# Altium footprint library ES_Pcb_x.PcbLib: 354 footprints (part 13 of 23)
Each footprint in its own frame and in the unit in brackets; x right, y up, seen from the top. Pads: shape width x height; smd on the part's side, far side on the other; paste and mask are expansions set on the pad; w line width, h text height; cw(c..) or ccw(c..) is an arc to the next point about the centre after c.
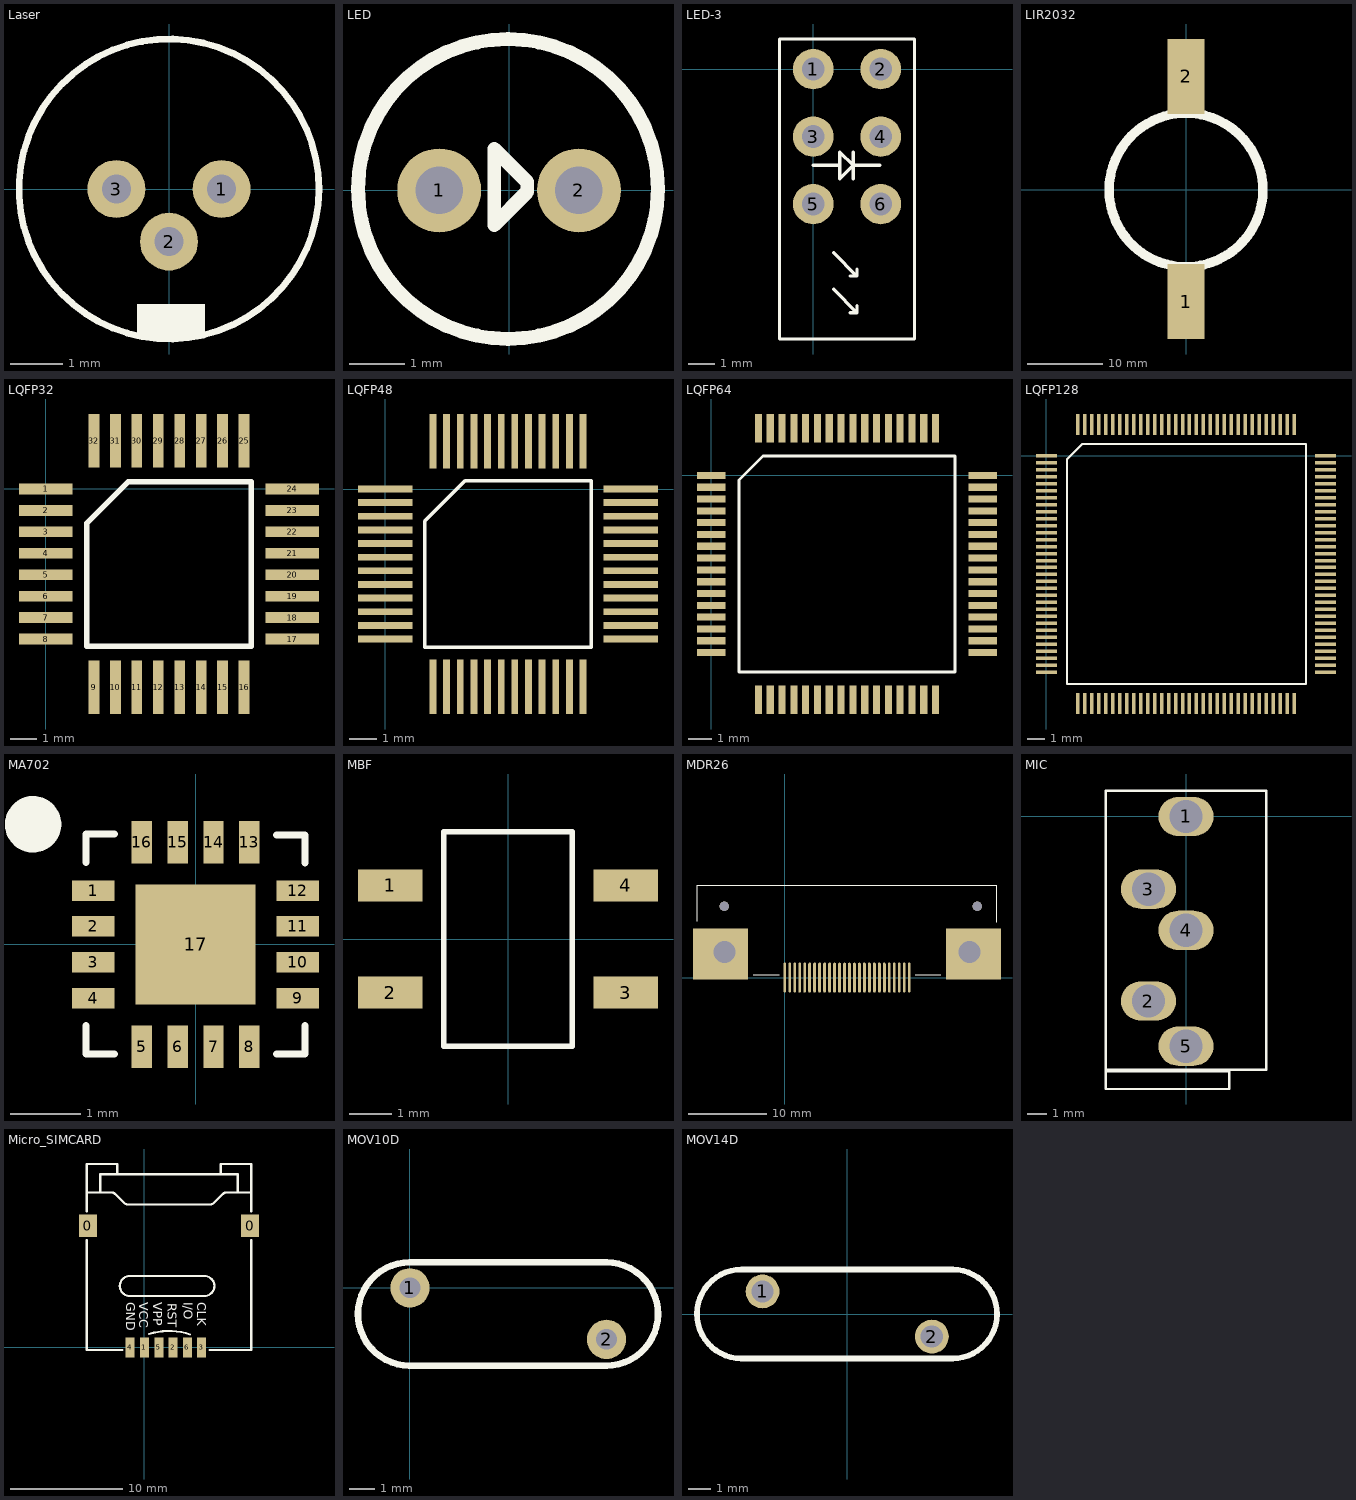
[diagram p12: the footprints below, top view; thin cyan lines are the x and y axes]

## Laser [mm]
pads (3):
  round 1.1 hole 0.55: 1(1,0) 2(0,-1) 3(-1,0)
Top Overlay:
  circle w0.127: c0,0 r2.85
  rectangle: -0.61,-2.819 0.686,-2.184

## LDW0735T-102 [mm]

## LED [mil]
pads (2):
  round 60 hole 34: 1(-50,0) 2(50,0)
Top Overlay:
  circle w10: c-0.79,0.98 r107.32
  lines w10: -10.63,-24.61 -10.63,29.53 12.99,5.91 12.99,-0.98 -10.63,-24.61

## LED-3 [mil]
pads (6):
  round 60 hole 34: 1(0,0) 2(100,0) 3(0,-100) 4(100,-100) 5(0,-200) 6(100,-200)
Top Overlay:
  lines w5: 0,-142.72 39.37,-142.72 ; 30.32,-326.38 64.76,-360.83 ; 30.32,-272.24 64.76,-306.69 ; 54.92,-360.83 64.76,-360.83 ; 54.92,-306.69 64.76,-306.69 ; 59.06,-162.4 59.06,-123.03 ; 64.76,-350.98 64.76,-360.83 ; 64.76,-296.85 64.76,-306.69 ; 98.43,-142.72 59.06,-142.72 ; 59.06,-142.72 39.37,-162.4 39.37,-123.03 59.06,-142.72 ; -50,-400 150,-400 150,44.69 -50,44.69 -50,-400

## LIR2032 [mm]
pads (2):
  rect 5x10 smd: 1(0,-14.884) 2(0,15.138)
Top Overlay:
  lines w1.27: 9.946,2.477 ccw(c0,0) 9.958,2.428

## LQFP32 [mm]
pads (32):
  rect 2x0.4 smd: 1(0,0) 2(0,-0.8) 3(0,-1.6) 4(0,-2.4) 5(0,-3.2) 6(0,-4) 7(0,-4.8) 8(0,-5.6) 17(9.2,-5.6) 18(9.2,-4.8) 19(9.2,-4) 20(9.2,-3.2) 21(9.2,-2.4) 22(9.2,-1.6) 23(9.2,-0.8) 24(9.2,0)
  rect 0.4x2 smd: 9(1.8,-7.4) 10(2.6,-7.4) 11(3.4,-7.4) 12(4.2,-7.4) 13(5,-7.4) 14(5.8,-7.4) 15(6.6,-7.4) 16(7.4,-7.4) 25(7.4,1.8) 26(6.6,1.8) 27(5.8,1.8) 28(5,1.8) 29(4.2,1.8) 30(3.4,1.8) 31(2.6,1.8) 32(1.8,1.8)
Top Overlay:
  lines w0.2: 1.535,-5.865 7.665,-5.865 7.665,0.265 3.07,0.265 1.535,-1.27 1.535,-5.865

## LQFP48 [mm]
pads (48):
  rect 2x0.25 smd: 1(0,0) 2(0,-0.5) 3(0,-1) 4(0,-1.5) 5(0,-2) 6(0,-2.5) 7(0,-3) 8(0,-3.5) 9(0,-4) 10(0,-4.5) 11(0,-5) 12(0,-5.5) 25(9,-5.5) 26(9,-5) 27(9,-4.5) 28(9,-4) 29(9,-3.5) 30(9,-3) 31(9,-2.5) 32(9,-2) 33(9,-1.5) 34(9,-1) 35(9,-0.5) 36(9,0)
  rect 0.25x2 smd: 13(1.75,-7.25) 14(2.25,-7.25) 15(2.75,-7.25) 16(3.25,-7.25) 17(3.75,-7.25) 18(4.25,-7.25) 19(4.75,-7.25) 20(5.25,-7.25) 21(5.75,-7.25) 22(6.25,-7.25) 23(6.75,-7.25) 24(7.25,-7.25) 37(7.25,1.75) 38(6.75,1.75) 39(6.25,1.75) 40(5.75,1.75) 41(5.25,1.75) 42(4.75,1.75) 43(4.25,1.75) 44(3.75,1.75) 45(3.25,1.75) 46(2.75,1.75) 47(2.25,1.75) 48(1.75,1.75)
Top Overlay:
  lines w0.127: 1.45,-5.8 7.55,-5.8 7.55,0.3 2.925,0.3 1.45,-1.175 1.45,-5.8

## LQFP64 [mm]
pads (64):
  rect 1.2x0.3 smd: 1(0,0) 2(0,-0.5) 3(0,-1) 4(0,-1.5) 5(0,-2) 6(0,-2.5) 7(0,-3) 8(0,-3.5) 9(0,-4) 10(0,-4.5) 11(0,-5) 12(0,-5.5) 13(0,-6) 14(0,-6.5) 15(0,-7) 16(0,-7.5) 33(11.5,-7.5) 34(11.5,-7) 35(11.5,-6.5) 36(11.5,-6) 37(11.5,-5.5) 38(11.5,-5) 39(11.5,-4.5) 40(11.5,-4) 41(11.5,-3.5) 42(11.5,-3) 43(11.5,-2.5) 44(11.5,-2) 45(11.5,-1.5) 46(11.5,-1) 47(11.5,-0.5) 48(11.5,0)
  rect 0.3x1.2 smd: 17(2,-9.5) 18(2.5,-9.5) 19(3,-9.5) 20(3.5,-9.5) 21(4,-9.5) 22(4.5,-9.5) 23(5,-9.5) 24(5.5,-9.5) 25(6,-9.5) 26(6.5,-9.5) 27(7,-9.5) 28(7.5,-9.5) 29(8,-9.5) 30(8.5,-9.5) 31(9,-9.5) 32(9.5,-9.5) 49(9.5,2) 50(9,2) 51(8.5,2) 52(8,2) 53(7.5,2) 54(7,2) 55(6.5,2) 56(6,2) 57(5.5,2) 58(5,2) 59(4.5,2) 60(4,2) 61(3.5,2) 62(3,2) 63(2.5,2) 64(2,2)
Top Overlay:
  lines w0.127: 1.178,-8.322 10.322,-8.322 10.322,0.822 2.194,0.822 1.178,-0.194 1.178,-8.322

## LQFP128 [mm]
pads (128):
  rect 1.2x0.2 smd: 1(0,0) 2(0,-0.4) 3(0,-0.8) 4(0,-1.2) 5(0,-1.6) 6(0,-2) 7(0,-2.4) 8(0,-2.8) 9(0,-3.2) 10(0,-3.6) 11(0,-4) 12(0,-4.4) 13(0,-4.8) 14(0,-5.2) 15(0,-5.6) 16(0,-6) 17(0,-6.4) 18(0,-6.8) 19(0,-7.2) 20(0,-7.6) 21(0,-8) 22(0,-8.4) 23(0,-8.8) 24(0,-9.2) 25(0,-9.6) 26(0,-10) 27(0,-10.4) 28(0,-10.8) 29(0,-11.2) 30(0,-11.6) 31(0,-12) 32(0,-12.4) 65(16,-12.4) 66(16,-12) 67(16,-11.6) 68(16,-11.2) 69(16,-10.8) 70(16,-10.4) 71(16,-10) 72(16,-9.6) 73(16,-9.2) 74(16,-8.8) 75(16,-8.4) 76(16,-8) 77(16,-7.6) 78(16,-7.2) 79(16,-6.8) 80(16,-6.4) 81(16,-6) 82(16,-5.6) 83(16,-5.2) 84(16,-4.8) 85(16,-4.4) 86(16,-4) 87(16,-3.6) 88(16,-3.2) 89(16,-2.8) 90(16,-2.4) 91(16,-2) 92(16,-1.6) 93(16,-1.2) 94(16,-0.8) 95(16,-0.4) 96(16,0)
  rect 0.2x1.2 smd: 33(1.8,-14.2) 34(2.2,-14.2) 35(2.6,-14.2) 36(3,-14.2) 37(3.4,-14.2) 38(3.8,-14.2) 39(4.2,-14.2) 40(4.6,-14.2) 41(5,-14.2) 42(5.4,-14.2) 43(5.8,-14.2) 44(6.2,-14.2) 45(6.6,-14.2) 46(7,-14.2) 47(7.4,-14.2) 48(7.8,-14.2) 49(8.2,-14.2) 50(8.6,-14.2) 51(9,-14.2) 52(9.4,-14.2) 53(9.8,-14.2) 54(10.2,-14.2) 55(10.6,-14.2) 56(11,-14.2) 57(11.4,-14.2) 58(11.8,-14.2) 59(12.2,-14.2) 60(12.6,-14.2) 61(13,-14.2) 62(13.4,-14.2) 63(13.8,-14.2) 64(14.2,-14.2) 97(14.2,1.8) 98(13.8,1.8) 99(13.4,1.8) 100(13,1.8) 101(12.6,1.8) 102(12.2,1.8) 103(11.8,1.8) 104(11.4,1.8) 105(11,1.8) 106(10.6,1.8) 107(10.2,1.8) 108(9.8,1.8) 109(9.4,1.8) 110(9,1.8) 111(8.6,1.8) 112(8.2,1.8) 113(7.8,1.8) 114(7.4,1.8) 115(7,1.8) 116(6.6,1.8) 117(6.2,1.8) 118(5.8,1.8) 119(5.4,1.8) 120(5,1.8) 121(4.6,1.8) 122(4.2,1.8) 123(3.8,1.8) 124(3.4,1.8) 125(3,1.8) 126(2.6,1.8) 127(2.2,1.8) 128(1.8,1.8)
Top Overlay:
  lines w0.127: 1.178,-13.075 14.875,-13.075 14.875,0.675 2.047,0.675 1.178,-0.194 1.178,-13.075

## MA702 [mm]
pads (17):
  rect 0.6x0.29 smd paste+0 mask+0: 1(-1.448,0.762) 2(-1.448,0.254) 3(-1.448,-0.254) 4(-1.448,-0.762) 9(1.448,-0.762) 10(1.448,-0.254) 11(1.448,0.254) 12(1.448,0.762)
  rect 0.29x0.6 smd paste+0 mask+0: 5(-0.762,-1.448) 6(-0.254,-1.448) 7(0.254,-1.448) 8(0.762,-1.448) 13(0.762,1.448) 14(0.254,1.448) 15(-0.254,1.448) 16(-0.762,1.448)
  rect 1.7x1.7 all layers, no hole paste+0 mask+0: 17(0,0)
Top Overlay:
  circle w0.4: c-2.3,1.7 r0.2
  lines w0.1: -1.55,-1.15 -1.55,-1.55 -1.15,-1.55 ; -1.55,1.16 -1.55,1.56 -1.15,1.56 ; 1.15,-1.55 1.55,-1.55 1.55,-1.15 ; 1.15,1.55 1.55,1.55 1.55,1.15

## MBF [mil]
pads (4):
  rect 60x30 smd: 1(-110,50) 2(-110,-50) 3(110,-50) 4(110,50)
Top Overlay:
  lines w5: -60,-100 60,-100 60,100 -60,100 -60,-100

## MDR26 [mm]
pads (28):
  oval 0.36x3.82 smd: 1(0,0) 2(1.27,0) 3(2.54,0) 4(3.81,0) 5(5.08,0) 6(6.35,0) 7(7.62,0) 8(8.89,0) 9(10.16,0) 10(11.43,0) 11(12.7,0) 12(13.97,0) 13(15.24,0) 14(0.635,0) 15(1.905,0) 16(3.175,0) 17(4.445,0) 18(5.715,0) 19(6.985,0) 20(8.255,0) 21(9.525,0) 22(10.795,0) 23(12.065,0) 24(13.335,0) 25(14.605,0) 26(15.875,0)
  rect 7x6.5 hole 2.79 copper offset -0.5,-0.25: ""(-7.692,3.25)
  rect 7x6.5 hole 2.79 copper offset 0.5,-0.25: ""(23.568,3.25)
via 24.567,9.09 diameter 1.2 hole 1.2
via -7.692,9.09 diameter 1.2 hole 1.2
Top Overlay:
  lines w0.127: -11.155,7.2 -11.155,11.75 27.045,11.75 27.045,7.075 ; -3.992,0.35 -0.705,0.35 ; 16.62,0.35 19.883,0.35

## MIC [mm]
pads (5):
  oval 2.8x2 hole 1.7: 1(0,0) 2(-1.91,-9.4) 3(-1.91,-3.7) 4(0,-5.8) 5(0,-11.7)
Top Overlay:
  lines w0.127: -4.09,-13.88 2.2,-13.88 2.2,-12.97 -4.09,-12.97 -4.09,-13.88 ; -4.09,-12.9 -4.09,1.3 4.09,1.3 4.09,-12.9 -4.09,-12.9

## Micro_SIMCARD [mm]
pads (8):
  rect 1.6x2 smd: 0(-5.02,10.8) 0(9.38,10.8)
  rect 0.8x1.8 smd: 1(0,0) 2(2.54,0) 3(5.08,0) 4(-1.27,0) 5(1.27,0) 6(3.81,0)
Top Overlay:
  lines w0.2: -5.12,9.525 -5.12,-0.229 -1.96,-0.229 ; -5.12,12.09 -5.12,16.3 -2.42,16.3 -2.42,15.4 ; -5.11,13.767 -2.938,13.767 cw(c-2.938,13.246) -2.57,13.614 -1.799,12.844 ccw(c-1.452,13.191) -1.452,12.7 5.812,12.7 ccw(c5.812,13.191) 6.159,12.844 6.93,13.614 cw(c7.298,13.246) 7.298,13.767 9.47,13.767 ; -3.92,13.767 -3.92,15.4 8.28,15.4 8.28,13.767 ; -1.376,4.572 5.33,4.572 ccw(c5.33,5.461) 6.219,5.461 ccw(c5.33,5.461) 5.33,6.35 -1.3,6.35 ccw(c-1.3,5.461) -2.189,5.461 ccw(c-1.3,5.461) -1.3,4.572 ; 0.41,1.193 cw(c2.18,-4.445) 4.056,1.158 ; 5.787,-0.229 9.48,-0.229 9.48,9.525 ; 6.78,15.4 6.78,16.3 9.48,16.3 9.48,12.09
  text "VCC" at -0.483,4.013 h0.8
  text "RST" at 2.083,3.912 h0.8
  text "CLK" at 4.674,4.013 h0.8
  text "GND" at -1.6,4.013 h0.8
  text "VPP" at 0.787,4.039 h0.8
  text "I/O" at 3.48,4.013 h0.8

## MOV10D [mil]
pads (2):
  round 60 hole 31.5: 1(0,0) 2(300,-78.74)
Top Overlay:
  lines w10: -0.73,-118.74 cw(c-0.57,-40) 0,38.74 300,38.74 cw(c299.84,-40) 299.27,-118.74 ; 0,-118.74 300,-118.74

## MOV14D [mil]
pads (2):
  round 60 hole 39.37: 1(-150,40) 2(150,-40)
Top Overlay:
  lines w10: -187.58,-78.74 cw(c-187.42,0) -186.85,78.74 186.85,78.74 cw(c186.69,0) 186.12,-78.74 ; -186.85,-78.74 186.85,-78.74